# Altium footprint library audio_mixer_pcb_lib.PcbLib: 24 footprints (part 1 of 2)
Each footprint in its own frame and in the unit in brackets; x right, y up, seen from the top. Pads: shape width x height; smd on the part's side, far side on the other; paste and mask are expansions set on the pad; w line width, h text height; cw(c..) or ccw(c..) is an arc to the next point about the centre after c.
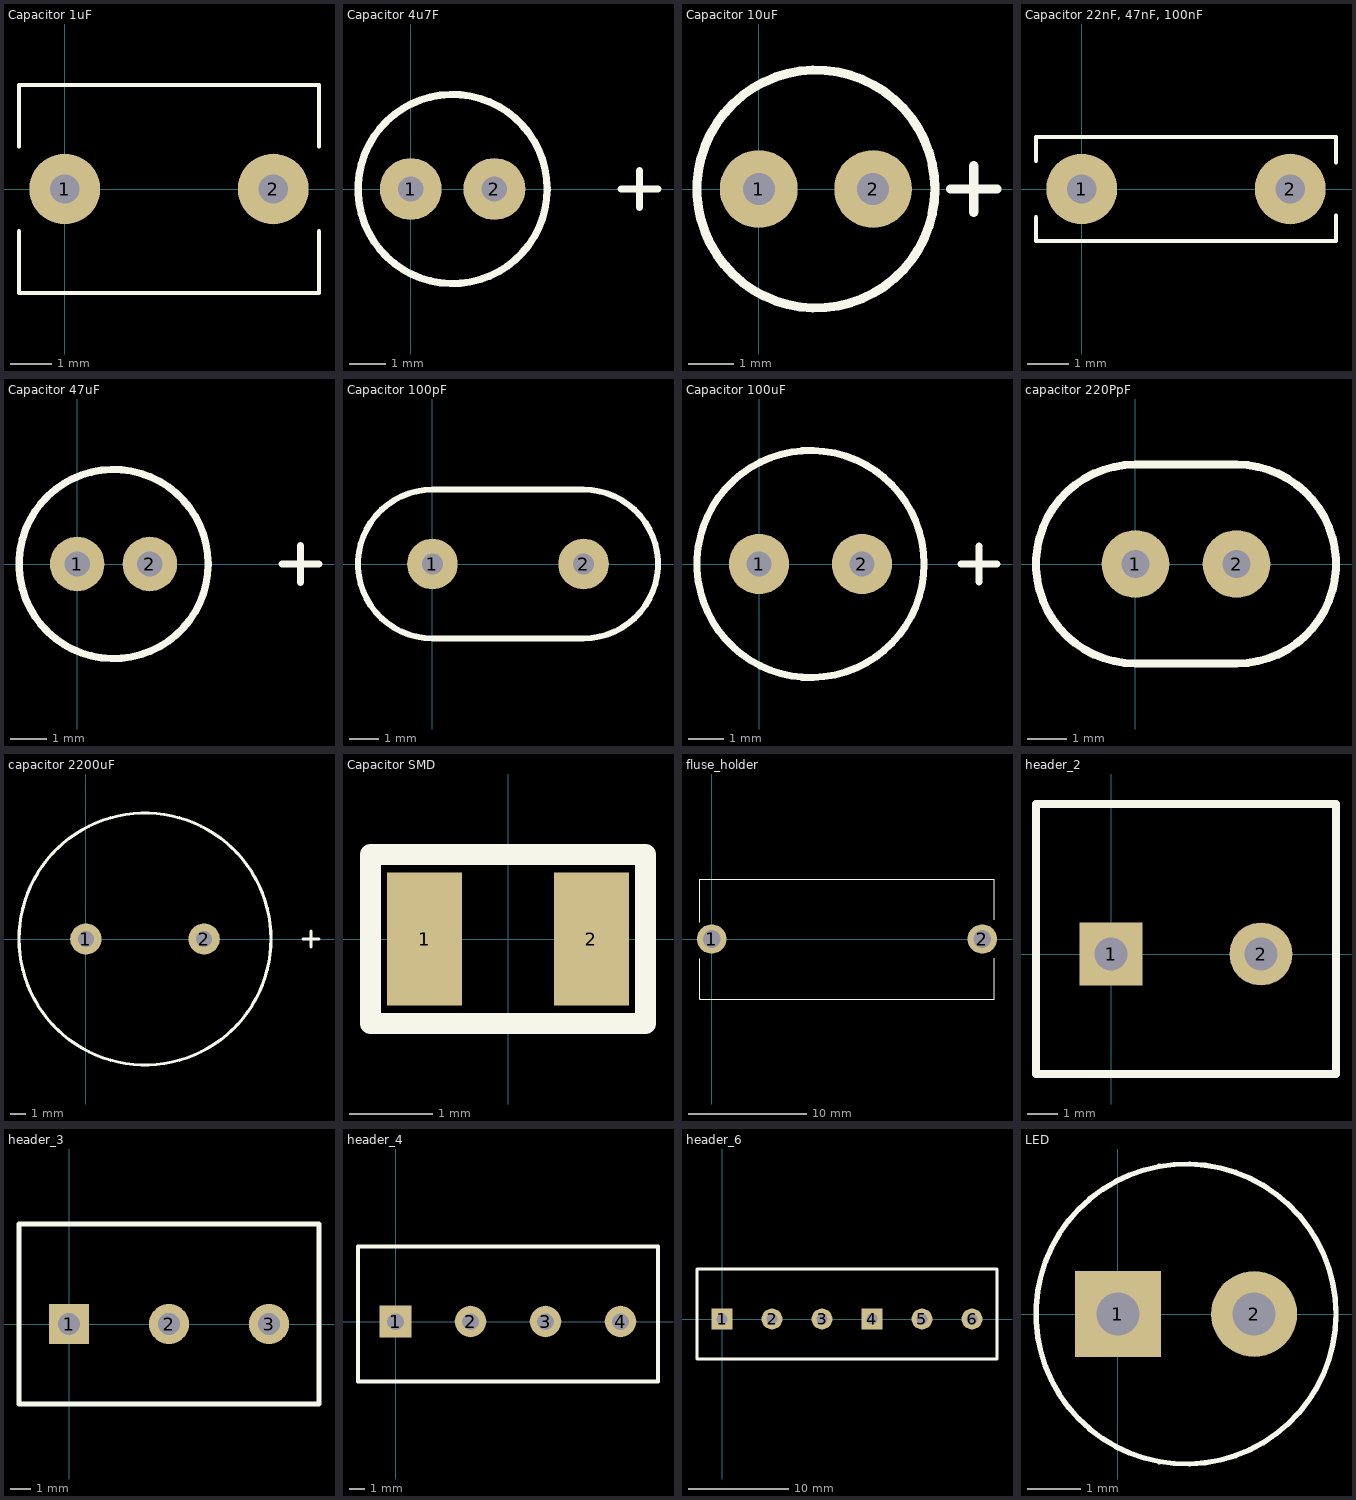
[diagram p0: the footprints below, top view; thin cyan lines are the x and y axes]

## Capacitor 1uF [mm]
pads (2):
  round 1.7 hole 0.7: 1(0,0) 2(5,0)
Top Overlay:
  lines w0.1: -1.1,-1.016 -1.1,-2.5 6.1,-2.5 6.1,-1.016 ; -1.1,1.019 -1.1,2.5 6.1,2.5 6.1,1.02

## Capacitor 4u7F [mm]
pads (2):
  round 1.7 hole 0.7: 1(0,0) 2(2.3,0)
Top Overlay:
  circle w0.2: c1.15,0 r2.6
  lines w0.2: 5.782,0 6.798,0 ; 6.29,-0.508 6.29,0.508

## Capacitor 10uF [mm]
pads (2):
  round 1.7 hole 0.7: 1(0,0) 2(2.5,0)
Top Overlay:
  circle w0.2: c1.25,0 r2.6
  lines w0.2: 4.191,0 5.207,0 ; 4.699,-0.508 4.699,0.508

## Capacitor 22nF, 47nF, 100nF [mm]
pads (2):
  round 1.7 hole 0.7: 1(0,0) 2(5,0)
Top Overlay:
  lines w0.1: -1.1,-0.678 -1.1,-1.25 6.1,-1.25 6.1,-0.635 ; -1.1,0.678 -1.1,1.25 6.1,1.25 6.1,0.639

## Capacitor 47uF [mm]
pads (2):
  round 1.5 hole 0.7: 1(0,0) 2(2,0)
Top Overlay:
  circle w0.2: c1,0 r2.6
  lines w0.2: 5.632,0 6.648,0 ; 6.14,-0.508 6.14,0.508

## Capacitor 100pF [mm]
pads (2):
  round 1.7 hole 0.7: 1(0,0) 2(5.08,0)
Top Overlay:
  lines w0.2: 0,-2.5 cw(c0,0) 0,2.5 5.08,2.5 cw(c5.08,0) 5.08,-2.5 0,-2.5

## Capacitor 100uF [mm]
pads (2):
  round 1.7 hole 0.7: 1(0,0) 2(2.9,0)
Top Overlay:
  circle w0.2: c1.45,0 r3.2
  lines w0.2: 5.691,0 6.707,0 ; 6.199,-0.508 6.199,0.508

## capacitor 220PpF [mm]
pads (2):
  round 1.7 hole 0.7: 1(0,0) 2(2.54,0)
Top Overlay:
  lines w0.2: 0,-2.5 cw(c0,0) 0,2.5 2.54,2.5 cw(c2.54,0) 2.54,-2.5 0,-2.5

## capacitor 2200uF [mm]
pads (2):
  round 2 hole 1: 1(0,0) 2(7.5,0)
Top Overlay:
  circle w0.2: c3.75,0 r8
  lines w0.2: 13.782,0 14.798,0 ; 14.29,-0.508 14.29,0.508

## Capacitor SMD [mm]
pads (2):
  rect 0.9x1.6 smd: 1(-1,0) 2(1,0)
Top Overlay:
  lines w0.254: -1.651,-1.016 -1.651,1.016 1.651,1.016 1.651,-1.016 -1.651,-1.016

## fluse_holder [mm]
pads (2):
  round 2.5 hole 1.5: 1(0,0) 2(23,0)
Top Overlay:
  lines w0.1: -1,-5.096 -0.996,-5.1 ; -1,1.413 -1,5.1 24,5.1 24,1.654 ; -0.996,-1.671 -0.996,-5.1 ; 24,-1.654 24,-5.1 -0.996,-5.1
3D body "fuseHolder.STEP": height 2.1, standoff -14.27, extent -1.27,-4.427 24.13,4.173

## header_2 [mm]
pads (2):
  rect 2.1x2.1 hole 1.1 square: 1(0,0)
  round 2.1 hole 1.1: 2(5,0)
Top Overlay:
  lines w0.254: -2.5,-4 -2.5,5 7.5,5 7.5,-4 -2.5,-4
3D body "Screw Terminal Block 5mm Blue 2-way.step": height 10, standoff -2, extent -2.65,-4 7.5,4

## header_3 [mm]
pads (3):
  rect 2x2 hole 1.1 square: 1(0,0)
  round 2 hole 1.1: 2(5,0) 3(10,0)
Top Overlay:
  lines w0.254: -2.5,-4 12.5,-4 12.5,5 -2.5,5 -2.5,-4
3D body "Screw Terminal Block 5mm Blue 3-way.step": height 10, standoff -2, extent -2.65,-4 12.5,4

## header_4 [mm]
pads (4):
  rect 2.1x2.1 hole 1.1 square: 1(0,0)
  round 2.1 hole 1.1: 2(5,0) 3(10,0) 4(15,0)
Top Overlay:
  lines w0.254: -2.5,-4 -2.5,5 17.5,5 17.5,-4 -2.5,-4
3D body "Screw Terminal Block 5mm Blue 2-way.step": height 10, standoff -2, extent -2.667,-4 7.483,4
3D body "Screw Terminal Block 5mm Blue 2-way.step": height 10, standoff -2, extent 7.34,-4 17.49,4

## header_6 [mm]
pads (6):
  rect 2.1x2.1 hole 1.1 square: 1(0,0) 4(15,0)
  round 2.1 hole 1.1: 2(5,0) 3(10,0) 5(20,0) 6(25,0)
Top Overlay:
  lines w0.254: 27.432,-4 -2.5,-4 -2.5,5 27.432,5 ; 27.5,-4 27.5,5
3D body "Screw Terminal Block 5mm Blue 3-way.step": height 10, standoff -2, extent -2.65,-4 12.5,4
3D body "Screw Terminal Block 5mm Blue 3-way.step": height 10, standoff -2, extent 12.35,-4 27.5,4

## LED [mm]
pads (2):
  rect 1.6x1.6 hole 0.8: 1(0,0)
  round 1.6 hole 0.8: 2(2.54,0)
Top Overlay:
  circle w0.1: c1.27,0 r2.794
3D body "LED 5mm_A.stp": height 14.18, standoff -13, extent -1.66,-2.929 3.65,2.93